# Altium footprint library dolphi_emblab.PcbLib: 128 footprints (part 5 of 8)
Each footprint in its own frame and in the unit in brackets; x right, y up, seen from the top. Pads: shape width x height; smd on the part's side, far side on the other; paste and mask are expansions set on the pad; w line width, h text height; cw(c..) or ccw(c..) is an arc to the next point about the centre after c.
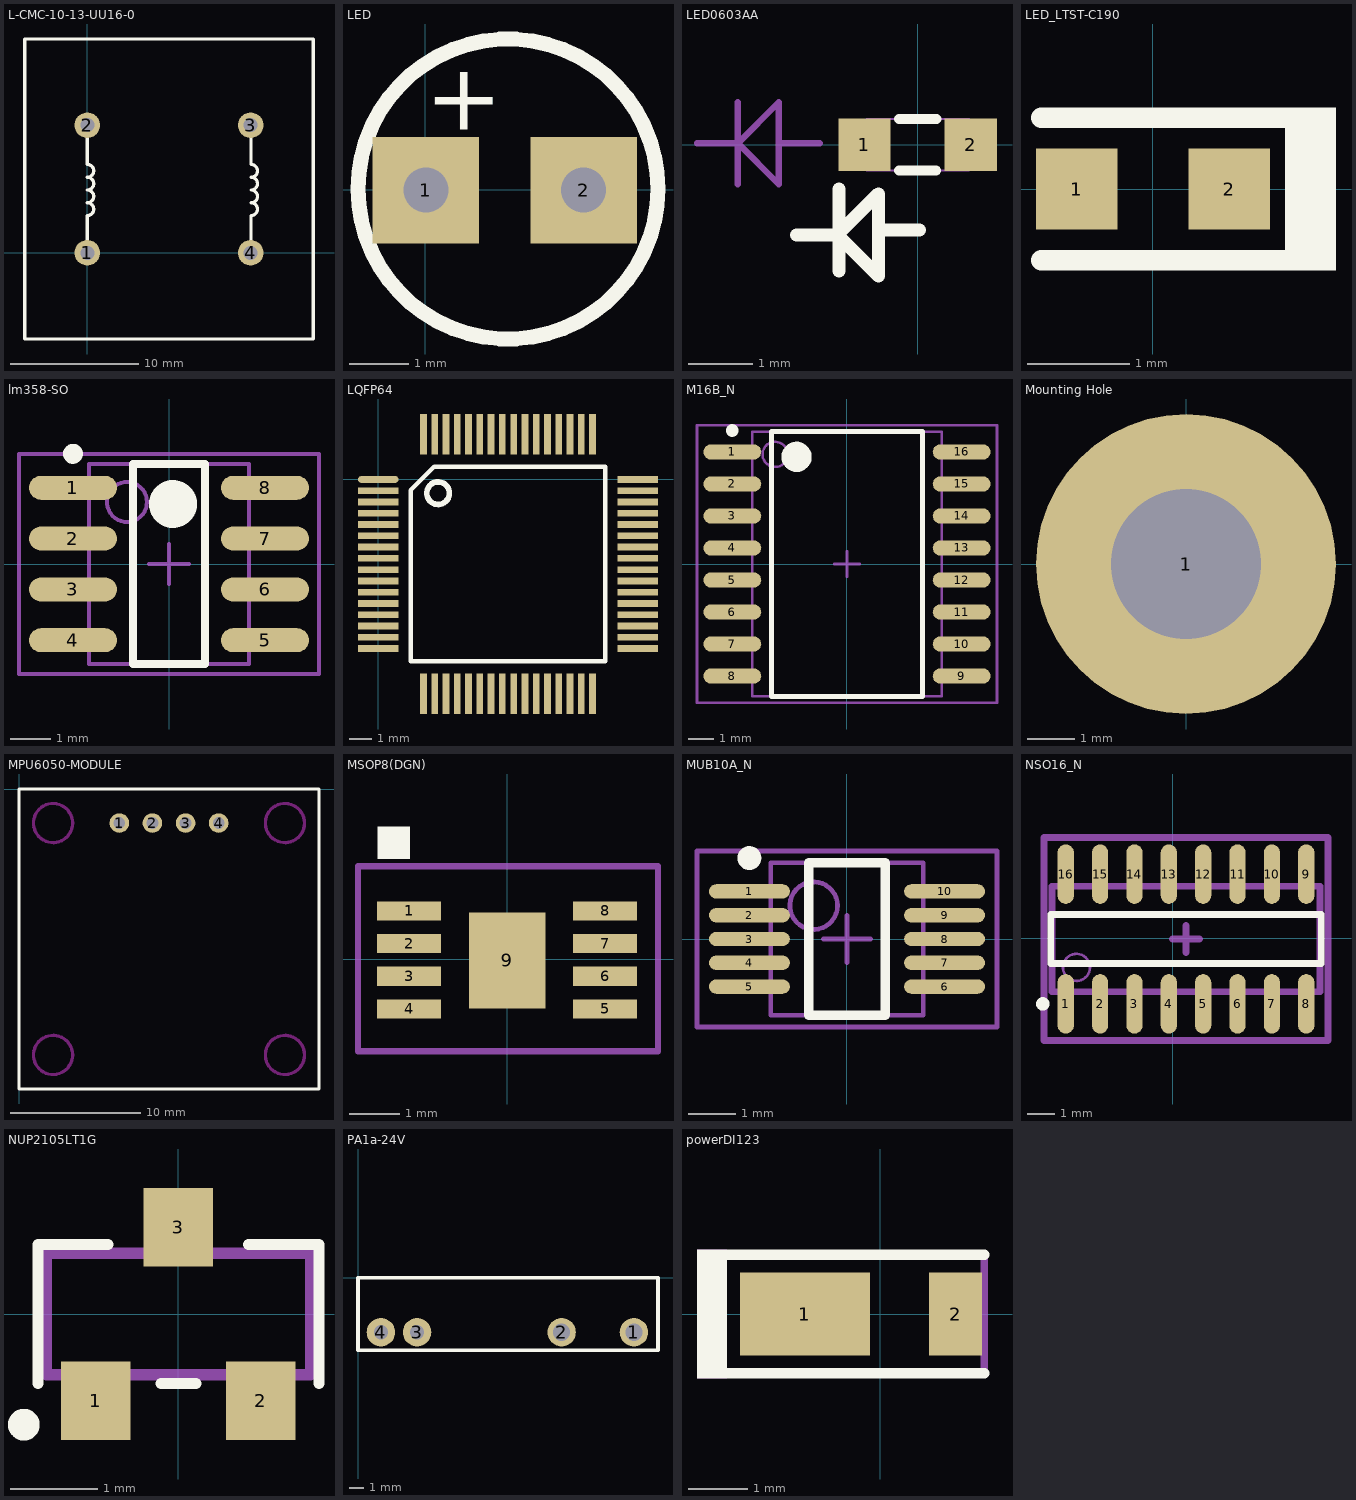
[diagram p4: the footprints below, top view; thin cyan lines are the x and y axes]

## L-CMC-10-13-UU16-0 [mm]
height 18.5
pads (4):
  round 2 hole 1.1: 1(0,0) 2(0,10) 3(12.8,10) 4(12.8,0)
Top Overlay:
  lines w0.254: 0,0 0,2.921 ccw(c0,3.421) 0,3.921 ccw(c0,4.421) 0,4.921 ccw(c0,5.421) 0,5.921 ccw(c0,6.421) 0,6.921 0,10 ; 12.827,0 12.827,2.921 ccw(c12.827,3.421) 12.827,3.921 ccw(c12.827,4.421) 12.827,4.921 ccw(c12.827,5.421) 12.827,5.921 ccw(c12.827,6.421) 12.827,6.921 12.827,10 ; -4.9,-6.75 17.7,-6.75 17.7,16.75 -4.9,16.75 -4.9,-6.75

## LED [mm]
pads (2):
  rect 1.8x1.8 hole 0.762: 1(0.01,-0.01) 2(2.68,-0.01)
Top Overlay:
  circle w0.254: c1.4,0.01 r2.539
  text "+" at 0,1.016 h1.14

## LED0603AA [mil]
height 35.43
pads (2):
  rect 32x32 smd: 1(-32.48,0) 2(32.48,0)
Top Overlay:
  lines w6: -11.42,-15.75 11.42,-15.75 ; -11.42,15.75 11.42,15.75
  lines w8: -74,-55 -49,-55 ; -48,-77 -48,-27 ; -24,-52 1,-52 ; -49,-55 -24,-30 -24,-80 -49,-55
Mechanical 15:
  lines w1: -31.5,-15.75 31.5,-15.75 31.5,15.75 -31.5,15.75 -31.5,-15.75
  lines w3.94: -134.79,0.96 -109.79,0.96 ; -109.79,-24.04 -109.79,25.96 ; -84.79,0.96 -59.79,0.96 ; -109.79,0.96 -84.79,25.96 -84.79,-24.04 -109.79,0.96

## LED_LTST-C190 [mm] "Lite-On"
height 0.9
pads (2):
  rect 0.8x0.8 smd: 1(-0.75,0) 2(0.75,0)
Top Overlay:
  region: 1.8,0.8 1.3,0.8 1.3,-0.8 1.8,-0.8
  lines w0.2: -1.1,-0.7 1.4,-0.7 ; -1.1,0.7 1.4,0.7
Mechanical 5:
  region: 1.8,0.75 1.3,0.75 1.3,-0.75 1.8,-0.75
  lines w0.1: -1.1,-0.7 1.4,-0.7 ; -1.1,0.7 1.4,0.7
3D body: height 0.9, standoff 0, extent -0.85,-0.45 0.85,0.45

## lm358-SO [mm] "SOIC, 8-Leads, Body 5.0x4.0mm (max), Pitch 1.27mm, IPC Medium Density"
height 1.75
pads (8):
  oval 2.2x0.6 smd: 1(-2.4,1.905) 2(-2.4,0.635) 3(-2.4,-0.635) 4(-2.4,-1.905) 5(2.4,-1.905) 6(2.4,-0.635) 7(2.4,0.635) 8(2.4,1.905)
Top Overlay:
  circle w0.6: c0.1,1.5 r0.3
  circle w0.25: c-2.4,2.755 r0.125
  lines w0.2: -0.9,-2.5 0.9,-2.5 0.9,2.5 -0.9,2.5 -0.9,-2.5
Mechanical 13:
  circle w0.1: c-1.05,1.55 r0.5
  lines w0.1: -2,-2.5 2,-2.5 2,2.5 -2,2.5 -2,-2.5
Mechanical 15:
  lines w0.1: -0.5,0 0.5,0 ; 0,-0.5 0,0.5 ; -3.75,-2.75 3.75,-2.75 3.75,2.75 -3.75,2.75 -3.75,-2.75
3D body: height 1.75, standoff 0.19, extent -2.032,-2.5 1.968,2.5

## LQFP64 [mm]
height 6.86
pads (64):
  oval 1.8x0.3 smd: 1(0,0)
  rect 1.8x0.3 smd: 2(0,-0.5) 3(0,-1) 4(0,-1.5) 5(0,-2) 6(0,-2.5) 7(0,-3) 8(0,-3.5) 9(0,-4) 10(0,-4.5) 11(0,-5) 12(0,-5.5) 13(0,-6) 14(0,-6.5) 15(0,-7) 16(0,-7.5) 33(11.5,-7.5) 34(11.5,-7) 35(11.5,-6.5) 36(11.5,-6) 37(11.5,-5.5) 38(11.5,-5) 39(11.5,-4.5) 40(11.5,-4) 41(11.5,-3.5) 42(11.5,-3) 43(11.5,-2.5) 44(11.5,-2) 45(11.5,-1.5) 46(11.5,-1) 47(11.5,-0.5) 48(11.5,0)
  rect 0.3x1.8 smd: 17(2,-9.5) 18(2.5,-9.5) 19(3,-9.5) 20(3.5,-9.5) 21(4,-9.5) 22(4.5,-9.5) 23(5,-9.5) 24(5.5,-9.5) 25(6,-9.5) 26(6.5,-9.5) 27(7,-9.5) 28(7.5,-9.5) 29(8,-9.5) 30(8.5,-9.5) 31(9,-9.5) 32(9.5,-9.5) 49(9.5,2) 50(9,2) 51(8.5,2) 52(8,2) 53(7.5,2) 54(7,2) 55(6.5,2) 56(6,2) 57(5.5,2) 58(5,2) 59(4.5,2) 60(4,2) 61(3.5,2) 62(3,2) 63(2.5,2) 64(2,2)
Top Overlay:
  circle w0.254: c2.65,-0.61 r0.5
  lines w0.2: 1.435,-8.065 10.065,-8.065 10.065,0.565 2.47,0.565 1.435,-0.47 1.435,-8.065

## M16B_N [mm] "SOIC, 16-Leads, Body 10.3x7.5mm, Pitch 1.27mm, IPC Medium Density"
height 2.65
pads (16):
  oval 2.3x0.6 smd: 1(-4.55,4.445) 2(-4.55,3.175) 3(-4.55,1.905) 4(-4.55,0.635) 5(-4.55,-0.635) 6(-4.55,-1.905) 7(-4.55,-3.175) 8(-4.55,-4.445) 9(4.55,-4.445) 10(4.55,-3.175) 11(4.55,-1.905) 12(4.55,-0.635) 13(4.55,0.635) 14(4.55,1.905) 15(4.55,3.175) 16(4.55,4.445)
Top Overlay:
  circle w0.6: c-2,4.25 r0.3
  circle w0.25: c-4.55,5.295 r0.125
  lines w0.2: -3,-5.25 3,-5.25 3,5.25 -3,5.25 -3,-5.25
Mechanical 13:
  circle w0.1: c-2.85,4.35 r0.5
  lines w0.1: -3.75,-5.25 3.75,-5.25 3.75,5.25 -3.75,5.25 -3.75,-5.25
Mechanical 15:
  lines w0.1: -0.5,0 0.5,0 ; 0,-0.5 0,0.5 ; -5.95,-5.5 5.95,-5.5 5.95,5.5 -5.95,5.5 -5.95,-5.5
3D body: height 2.65, standoff 0, extent -3.75,-5.25 3.75,5.25

## Mounting Hole [mm]
pads (1):
  round 6.35 hole 3.175: 1(0,0)

## MPU6050-MODULE [mm]
pads (4):
  round 1.5 hole 0.9: 1(7.69,-2.61) 2(10.23,-2.61) 3(12.77,-2.61) 4(15.31,-2.61)
Top Overlay:
  lines w0.254: 0,-23 23,-23 23,0 0,0 0,-23
Keep-Out Layer:
  circle w0.254: c20.39,-20.39 r1.5
  circle w0.254: c2.61,-20.39 r1.5
  circle w0.254: c20.39,-2.61 r1.5
  circle w0.254: c2.61,-2.61 r1.5

## MSOP8(DGN) [mil]
pads (9):
  rect 50x15 smd: 1(-77,38) 2(-77,12.4) 3(-77,-13.2) 4(-77,-38.8) 5(76.6,-38.8) 6(76.6,-13.2) 7(76.6,12.4) 8(76.6,38)
  rect 60x75 smd: 9(0,-0.8)
Top Overlay:
  region: -101.5,104 -76.5,104 -76.5,79 -101.5,79
  region: -101.5,104 -76.5,104 -76.5,79 -101.5,79
Mechanical 5:
  lines w5: -117,-72 -117,73 118,73 118,-72 -117,-72

## MUB10A_N [mm] "TSSOP, 10-Leads, Body 3x3mm, Pitch 0.5mm, IPC Medium Density"
height 1.09
pads (10):
  oval 1.7x0.3 smd: 1(-2.05,1) 2(-2.05,0.5) 3(-2.05,0) 4(-2.05,-0.5) 5(-2.05,-1) 6(2.05,-1) 7(2.05,-0.5) 8(2.05,0) 9(2.05,0.5) 10(2.05,1)
Top Overlay:
  circle w0.25: c-2.05,1.7 r0.125
  lines w0.2: -0.8,-1.6 0.8,-1.6 0.8,1.6 -0.8,1.6 -0.8,-1.6
Mechanical 13:
  circle w0.1: c-0.7,0.7 r0.5
  lines w0.1: -1.6,-1.6 1.6,-1.6 1.6,1.6 -1.6,1.6 -1.6,-1.6
Mechanical 15:
  lines w0.1: -0.5,0 0.5,0 ; 0,-0.5 0,0.5 ; -3.15,-1.85 3.15,-1.85 3.15,1.85 -3.15,1.85 -3.15,-1.85
3D body: height 1.09, standoff 0, extent -1.6,-1.6 1.6,1.6

## NSO16_N [mm]
height 1.6
pads (16):
  oval 0.6x2.2 smd: 1(-3.957,-2.43) 2(-2.687,-2.43) 3(-1.417,-2.43) 4(-0.147,-2.43) 5(1.123,-2.43) 6(2.393,-2.43) 7(3.663,-2.43) 8(4.933,-2.43) 9(4.933,2.37) 10(3.663,2.37) 11(2.393,2.37) 12(1.123,2.37) 13(-0.147,2.37) 14(-1.417,2.37) 15(-2.687,2.37) 16(-3.957,2.37)
Top Overlay:
  circle w0.25: c-4.807,-2.43 r0.125
  lines w0.254: -4.512,-0.93 5.488,-0.93 5.488,0.87 -4.512,0.87 -4.512,-0.93
Mechanical 13:
  circle w0.1: c-3.562,-1.08 r0.5
  lines w0.254: -4.462,-1.98 5.438,-1.98 5.438,1.92 -4.462,1.92 -4.462,-1.98
Mechanical 15:
  lines w0.254: -0.012,-0.03 0.988,-0.03 ; 0.488,-0.53 0.488,0.47 ; -4.762,-3.78 5.738,-3.78 5.738,3.72 -4.762,3.72 -4.762,-3.78
3D body: height 1.75, standoff 0, extent -4.462,-1.98 5.438,1.92

## NUP2105LT1G [mm] "IC CAN BUS PROTECTOR DUAL SOT23"
height 1.11
pads (3):
  rect 0.8x0.9 smd mask+0.05: 1(-0.95,-1) 2(0.95,-1) 3(0,1)
Top Overlay:
  circle w0.254: c-1.781,-1.275 r0.056
  lines w0.127: -1.62,-0.8 -1.62,0.8 -0.81,0.8 ; -0.2,-0.8 0.2,-0.8 ; 0.81,0.8 1.62,0.8 1.62,-0.8
Mechanical 5:
  lines w0.127: -1.52,-0.7 1.52,-0.7 1.52,0.7 -1.52,0.7 -1.52,-0.7
  text ".Designator" at -1.075,-0.225 h0.64
3D body: height 1.11, standoff 0, extent -1.52,-0.7 1.52,0.7
3D body: height 1.12, standoff 1.11, extent -1.249,-0.55 -0.95,-0.25

## PA1a-24V [mm]
pads (4):
  round 2 hole 1.2: 1(19.39,-3.82) 2(14.31,-3.82)
  round 2 hole 1: 3(4.15,-3.82) 4(1.61,-3.82)
Top Overlay:
  lines w0.254: 0,-5.08 21.082,-5.08 21.082,0 9.525,0 ; 0,-5 0,0 21,0

## PCBComponent_1 [mm]

## powerDI123 [mm] "Diodes Inc recommended land pattern, document number DS30628 Rev. 6-2"
height 1
pads (2):
  rect 2.2x1.4 smd: 1(-1.275,0)
  rect 0.9x1.4 smd: 2(1.275,0)
Top Overlay:
  rectangle: -3.099,-1.092 -2.591,1.092
  lines w0.178: -2.946,-1.003 1.759,-1.003 ; -2.946,1.003 1.759,1.003
Mechanical 5:
  rectangle: -3.099,-1.092 -2.591,1.092
  lines w0.127: -2.946,-1.003 1.759,-1.003 1.759,1.003 -2.946,1.003
3D body: height 1, standoff 0, extent -2.375,-0.965 1.525,0.965